# Altium footprint library DX4R205JJAR1800.PcbLib: 1 footprints
Each footprint in its own frame and in the unit in brackets; x right, y up, seen from the top. Pads: shape width x height; smd on the part's side, far side on the other; paste and mask are expansions set on the pad; w line width, h text height; cw(c..) or ccw(c..) is an arc to the next point about the centre after c.
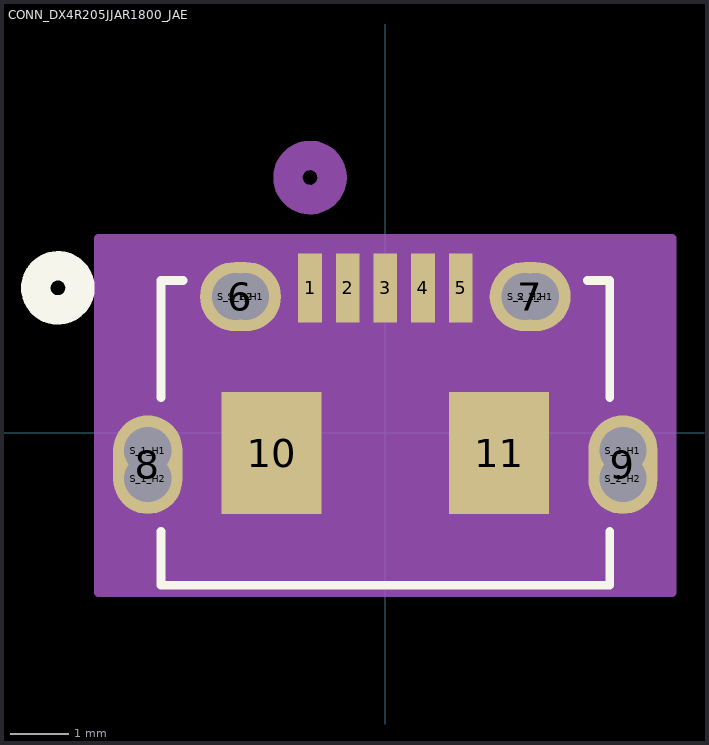
[diagram p0: the footprint, top view; thin cyan lines are the x and y axes]

## CONN_DX4R205JJAR1800_JAE [mil]
pads (19):
  rect 16x47 smd paste+0 mask+0: 1(-51.18,98.5) 2(-25.59,98.5) 3(0,98.5) 4(25.59,98.5) 5(51.18,98.5)
  oval 55x47 smd paste-27.5 mask-27.5: 6(-98.43,92.59) 7(98.43,92.59)
  oval 47x67 smd paste-33.5 mask-33.5: 8(-161.42,-21.58) 9(161.42,-21.58)
  rect 68x83 smd paste-41.5 mask-41.5: 10(-77.26,-13.7) 11(77.26,-13.7)
  round 32 / inner round 60 / far side round 32 hole 32 unplated paste-16 mask-16: S_1_H1(-161.42,-12.08) S_1_H1(-94.93,92.59) S_1_H2(-161.42,-31.08) S_1_H2(-101.93,92.59) S_2_H1(101.93,92.59) S_2_H1(161.42,-12.08) S_2_H2(94.93,92.59) S_2_H2(161.42,-31.08)
Top Overlay:
  circle w20: c-222.5,98.5 r15
  lines w6: -152.5,-67.08 -152.5,-103.5 152.5,-103.5 152.5,-67.08 ; -152.5,23.92 -152.5,103.5 -137.36,103.5 ; 137.36,103.5 152.5,103.5 152.5,23.92
Bottom Overlay:
  circle w20: c-222.5,98.5 r15
Mechanical 13:
  circle w20: c-51.18,173.5 r15
  lines w1: -147.5,-98.5 147.5,-98.5 147.5,98.5 -147.5,98.5 -147.5,-98.5
Mechanical 15:
  region: 194.92,132 -194.92,132 -194.92,-108.5 194.92,-108.5
  lines w6: -194.92,-108.5 -194.92,132 194.92,132 194.92,-108.5 -194.92,-108.5
Multi-Layer:
  lines w32: -161.42,-31.08 -161.42,-12.08 ; -101.93,92.59 -94.93,92.59 ; 94.93,92.59 101.93,92.59 ; 161.42,-31.08 161.42,-12.08